# Altium footprint library AIRZAI_LED_SENSE_FLEX_REVA.PcbLib: 3 footprints
Each footprint in its own frame and in the unit in brackets; x right, y up, seen from the top. Pads: shape width x height; smd on the part's side, far side on the other; paste and mask are expansions set on the pad; w line width, h text height; cw(c..) or ccw(c..) is an arc to the next point about the centre after c.
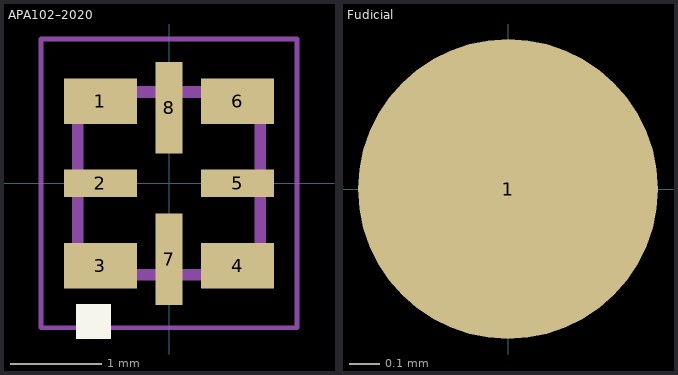
[diagram p0: the footprints below, top view; thin cyan lines are the x and y axes]

## APA102–2020 [mm]
pads (8):
  rect 0.8x0.5 smd: 1(-0.75,0.9) 3(-0.75,-0.9) 4(0.75,-0.9) 6(0.75,0.9)
  rect 0.8x0.3 smd: 2(-0.75,0) 5(0.75,0)
  rect 0.3x1 smd: 7(0,-0.83) 8(0,0.83)
Top Overlay:
  rectangle: -1.016,-1.702 -0.635,-1.321
Mechanical 13 (Mech13):
  lines w0.127: -1,-1 -1,1 1,1 1,-1 -1,-1
Mechanical 16:
  lines w0.05: -1.4,-1.58 -1.4,1.58 1.4,1.58 1.4,-1.58 -1.4,-1.58
3D body: height 0.91, standoff 0, extent -1,-1 1,1
3D body: height 0.94, standoff 0, extent 0.318,0.254 0.699,0.762
3D body: height 0.94, standoff 0, extent -0.19,0.254 0.191,0.762
3D body: height 0.94, standoff 0, extent -0.698,0.254 -0.317,0.762

## Fudicial [mm]
pads (1):
  round 1 smd paste-0.5 mask+0.5: 1(0,0)

## PCBComponent_1 [mm]